# Altium footprint library ADUM210N1BRIZ.PcbLib: 1 footprints
Each footprint in its own frame and in the unit in brackets; x right, y up, seen from the top. Pads: shape width x height; smd on the part's side, far side on the other; paste and mask are expansions set on the pad; w line width, h text height; cw(c..) or ccw(c..) is an arc to the next point about the centre after c.
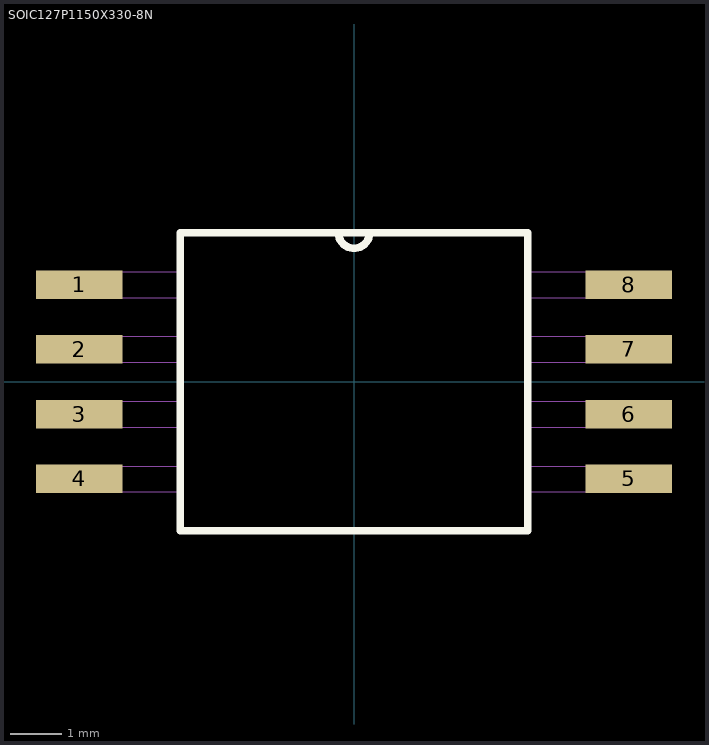
[diagram p0: the footprint, top view; thin cyan lines are the x and y axes]

## SOIC127P1150X330-8N [mil]
pads (8):
  rect 67x22 smd: 1(-212,75) 2(-212,25) 3(-212,-25) 4(-212,-75) 5(212,-75) 6(212,-25) 7(212,25) 8(212,75)
Top Overlay:
  lines w6: -12,115 ccw(c0,115) 12,115 ; -12,115 12,115 ; -12,115 -134,115 -134,-115 134,-115 134,115 12,115
Mechanical 1:
  lines w0: -12,115 ccw(c0,115) 12,115 ; -12,115 12,115 ; -12,115 -134,115 -134,-115 134,-115 134,115 12,115 ; -231,-85 -231,-65 -134,-65 -134,-85 -231,-85 ; -231,-35 -231,-15 -134,-15 -134,-35 -231,-35 ; -231,15 -231,35 -134,35 -134,15 -231,15 ; -231,65 -231,85 -134,85 -134,65 -231,65 ; 134,-85 134,-65 231,-65 231,-85 134,-85 ; 134,-35 134,-15 231,-15 231,-35 134,-35 ; 134,15 134,35 231,35 231,15 134,15 ; 134,65 134,85 231,85 231,65 134,65